# EAGLE library part AE-TC78H653FTG (library akizuki)
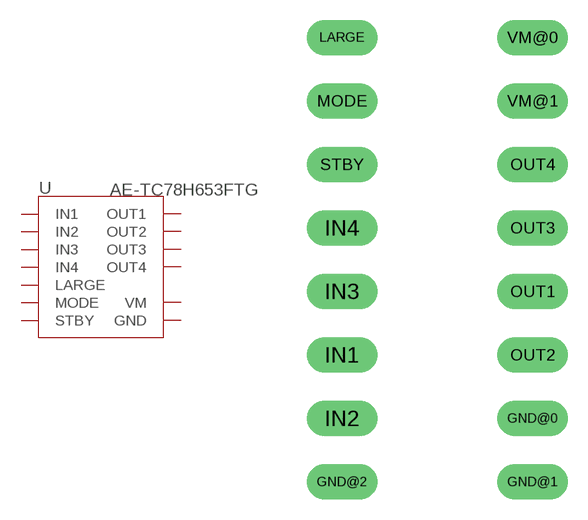
[diagram p4: symbol with the pads of AE-TC78H653FTG; footprint AE-TC78H653FTG]

Designator prefix -

## AE-TC78H653FTG  [AE-TC78H653FTG]
GND@0  GND
GND@1  GND
GND@2  GND
IN1  IN1
IN2  IN2
IN3  IN3
IN4  IN4
LARGE  LARGE
MODE  MODE
OUT1  OUT1
OUT2  OUT2
OUT3  OUT3
OUT4  OUT4
STBY  STBY
VM@0  VM
VM@1  VM

## Footprint AE-TC78H653FTG (pad centres in mm)
drill 0.8 pad 1.422 long: GND@0 3.81,-6.35; GND@1 3.81,-8.89; GND@2 -3.81,-8.89; IN1 -3.81,-3.81; IN2 -3.81,-6.35; IN3 -3.81,-1.27; IN4 -3.81,1.27; LARGE -3.81,8.89; MODE -3.81,6.35; OUT1 3.81,-1.27; OUT2 3.81,-3.81; OUT3 3.81,1.27; OUT4 3.81,3.81; STBY -3.81,3.81; VM@0 3.81,8.89; VM@1 3.81,6.35